# Altium footprint library SMF6P5CA.PcbLib: 3 footprints
Each footprint in its own frame and in the unit in brackets; x right, y up, seen from the top. Pads: shape width x height; smd on the part's side, far side on the other; paste and mask are expansions set on the pad; w line width, h text height; cw(c..) or ccw(c..) is an arc to the next point about the centre after c.
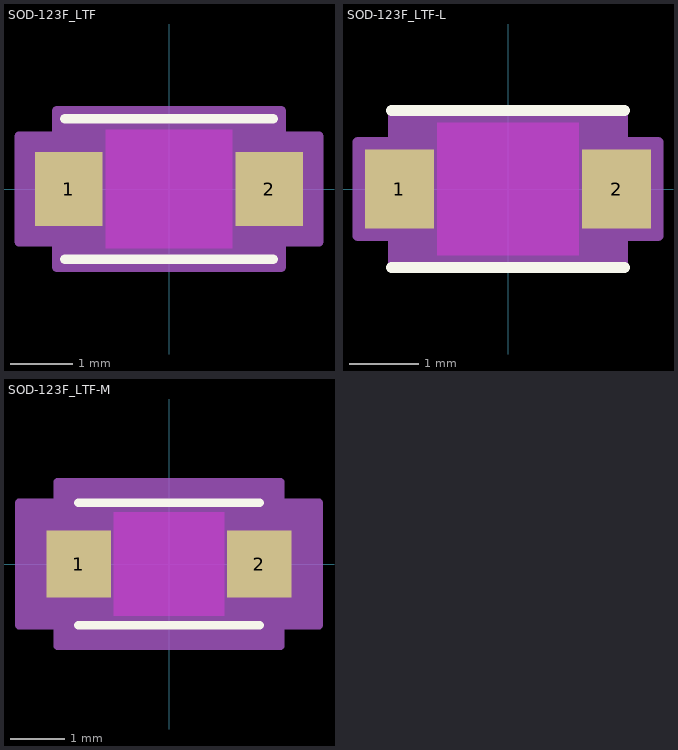
[diagram p0: the footprints below, top view; thin cyan lines are the x and y axes]

## SOD-123F_LTF [mil]
pads (2):
  rect 43x47 smd paste+0 mask+0: 1(-63.5,0) 2(63.5,0)
Top Layer keep-out:
  region: -40,-37.5 -40,37.5 40,37.5 40,-37.5
Top Overlay:
  lines w6: -66,-44.5 66,-44.5 ; -66,44.5 66,44.5
  text ".Designator" at -137.5,-25 h50
Keep-Out Layer:
  region: -40,-37.5 -40,37.5 40,37.5 40,-37.5
Mechanical 13:
  lines w1: -61,-19.75 -41.25,-39.5 ; -61,19.75 -41.25,39.5 ; -77,-23.5 -77,23.5 -61,23.5 -61,-23.5 -77,-23.5 ; -61,-39.5 61,-39.5 61,39.5 -61,39.5 -61,-39.5 ; 61,-23.5 61,23.5 77,23.5 77,-23.5 61,-23.5
  text ".Designator" at -137.5,-25 h50
Mechanical 15:
  region: -71,-33.5 -95,-33.5 -95,33.5 -71,33.5 -71,49.5 71,49.5 71,33.5 95,33.5 95,-33.5 71,-33.5 71,-49.5 -71,-49.5
  lines w6: -95,-33.5 -95,33.5 -71,33.5 -71,49.5 71,49.5 71,33.5 95,33.5 95,-33.5 71,-33.5 71,-49.5 -71,-49.5 -71,-33.5 -95,-33.5
3D body "SOD-123F_LTF.step": height 42.99, standoff 0, extent -77.01,-39.49 77.01,39.49

## SOD-123F_LTF-L [mil]
pads (2):
  rect 39x45 smd paste+0 mask+0: 1(-61.5,0) 2(61.5,0)
Top Layer keep-out:
  region: -40,-37.5 -40,37.5 40,37.5 40,-37.5
Top Overlay:
  lines w6: -66,-44.5 66,-44.5 ; -66,44.5 66,44.5
  text ".Designator" at -137.5,-25 h50
Keep-Out Layer:
  region: -40,-37.5 -40,37.5 40,37.5 40,-37.5
Mechanical 13:
  lines w1: -61,-19.75 -41.25,-39.5 ; -61,19.75 -41.25,39.5 ; -77,-23.5 -77,23.5 -61,23.5 -61,-23.5 -77,-23.5 ; -61,-39.5 61,-39.5 61,39.5 -61,39.5 -61,-39.5 ; 61,-23.5 61,23.5 77,23.5 77,-23.5 61,-23.5
  text ".Designator" at -137.5,-25 h50
Mechanical 15:
  region: -65,-26.5 -85,-26.5 -85,26.5 -65,26.5 -65,43.5 65,43.5 65,26.5 85,26.5 85,-26.5 65,-26.5 65,-43.5 -65,-43.5
  lines w6: -85,-26.5 -85,26.5 -65,26.5 -65,43.5 65,43.5 65,26.5 85,26.5 85,-26.5 65,-26.5 65,-43.5 -65,-43.5 -65,-26.5 -85,-26.5
3D body "SOD-123F_LTF.step": height 42.99, standoff 0, extent -77.01,-39.49 77.01,39.49

## SOD-123F_LTF-M [mil]
pads (2):
  rect 47x49 smd paste+0 mask+0: 1(-65.5,0) 2(65.5,0)
Top Layer keep-out:
  region: -40,-37.5 -40,37.5 40,37.5 40,-37.5
Top Overlay:
  lines w6: -66,-44.5 66,-44.5 ; -66,44.5 66,44.5
  text ".Designator" at -137.5,-25 h50
Keep-Out Layer:
  region: -40,-37.5 -40,37.5 40,37.5 40,-37.5
Mechanical 13:
  lines w1: -61,-19.75 -41.25,-39.5 ; -61,19.75 -41.25,39.5 ; -77,-23.5 -77,23.5 -61,23.5 -61,-23.5 -77,-23.5 ; -61,-39.5 61,-39.5 61,39.5 -61,39.5 -61,-39.5 ; 61,-23.5 61,23.5 77,23.5 77,-23.5 61,-23.5
  text ".Designator" at -137.5,-25 h50
Mechanical 15:
  region: -81,-44.5 -109,-44.5 -109,44.5 -81,44.5 -81,59.5 81,59.5 81,44.5 109,44.5 109,-44.5 81,-44.5 81,-59.5 -81,-59.5
  lines w6: -109,-44.5 -109,44.5 -81,44.5 -81,59.5 81,59.5 81,44.5 109,44.5 109,-44.5 81,-44.5 81,-59.5 -81,-59.5 -81,-44.5 -109,-44.5
3D body "SOD-123F_LTF.step": height 42.99, standoff 0, extent -77.01,-39.49 77.01,39.49